# Altium schematic symbol library 3.10 - HDSC_MCU.SCHLIB: 1 symbol
Pins are listed as number, name and electrical type; pins without a type are passive.

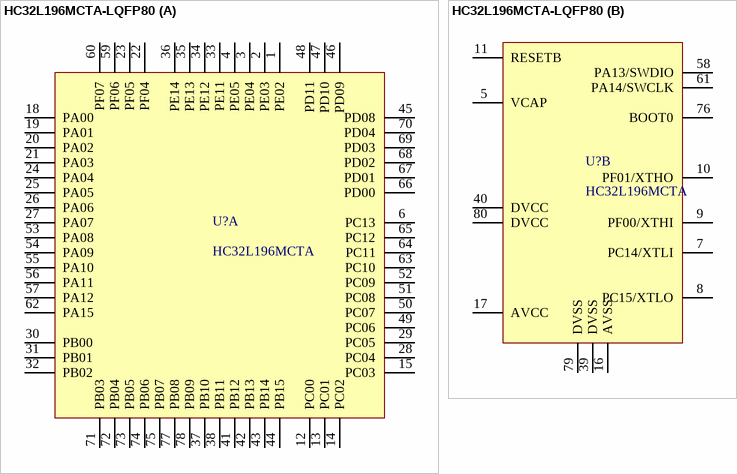
[diagram p0: symbol HC32L196MCTA-LQFP80]

## HC32L196MCTA-LQFP80
designator U?, comment HC32L196MCTA
华大MCU，低功耗系列，M0+内核，@48Mhz, 256K ROM, 32K RAM
footprint LQFP80 12x12_L (Thin QFP, 80-Leads, Body 12x12mm, Pitch 0.5mm, IPC High Density)
footprint LQFP80 12x12_M (Thin QFP, 80-Leads, Body 12x12mm, Pitch 0.5mm, IPC Low Density)
footprint LQFP80 12x12_N (Thin QFP, 80-Leads, Body 12x12mm, Pitch 0.5mm, IPC Medium Density)
part A pins: 1 PE02, 2 PE03, 3 PE04, 4 PE05, 6 PC13, 12 PC00, 13 PC01, 14 PC02, 15 PC03, 18 PA00, 19 PA01, 20 PA02, 21 PA03, 22 PF04, 23 PF05, 24 PA04, 25 PA05, 26 PA06, 27 PA07, 28 PC04, 29 PC05, 30 PB00, 31 PB01, 32 PB02, 33 PE11, 34 PE12, 35 PE13, 36 PE14, 37 PB10, 38 PB11, 41 PB12, 42 PB13, 43 PB14, 44 PB15, 45 PD08, 46 PD09, 47 PD10, 48 PD11, 49 PC06, 50 PC07, 51 PC08, 52 PC09, 53 PA08, 54 PA09, 55 PA10, 56 PA11, 57 PA12, 59 PF06, 60 PF07, 62 PA15, 63 PC10, 64 PC11, 65 PC12, 66 PD00, 67 PD01, 68 PD02, 69 PD03, 70 PD04, 71 PB03, 72 PB04, 73 PB05, 74 PB06, 75 PB07, 77 PB08, 78 PB09
part B pins: 5 VCAP, 7 PC14/XTLI, 8 PC15/XTLO, 9 PF00/XTHI, 10 PF01/XTHO, 11 RESETB, 16 AVSS, 17 AVCC, 39 DVSS, 40 DVCC, 58 PA13/SWDIO, 61 PA14/SWCLK, 76 BOOT0, 79 DVSS, 80 DVCC